# EAGLE library part LM833N (library LM833N)
OP AMP
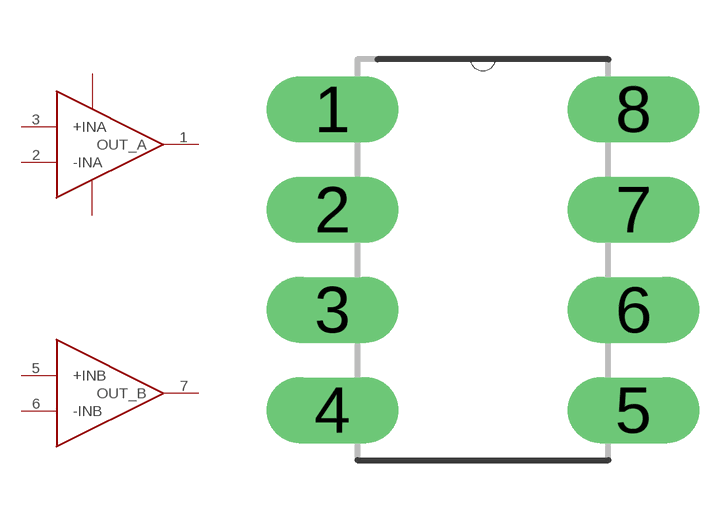
[diagram p0: symbol with the pads of DIP254P762X508-8; footprint DIP254P762X508-8]

Designator prefix U

## LM833N (AVAILABILITY: Unavailable; DESCRIPTION: Dual Audio Operational Amplifier 8-PDIP -40 to 85; MF: Texas Instruments; MP: LM833N; PACKAGE: DIP-8 Texas Instruments; PRICE: None)  [DIP254P762X508-8]
1  OUT_A  out
2  -INA  in
3  +INA  in
4  -VEE  pwr
5  +INB  in
6  -INB  in
7  OUT_B  out
8  +VCC  pwr

## Footprint DIP254P762X508-8 (pad centres in mm)
drill 1.118 long: 1 -7.62,7.62; 2 -7.62,5.08; 3 -7.62,2.54; 4 -7.62,0; 5 0,0; 6 0,2.54; 7 0,5.08; 8 0,7.62